# Altium schematic symbol library CONN-1-PIN.SchLib: 1 symbol
Pins are listed as number, name and electrical type; pins without a type are passive.

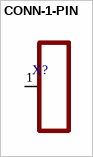
[diagram p0: symbol CONN-1-PIN]

## CONN-1-PIN
designator X?
pins: 1